# Altium integrated library NSC Switcher.IntLib: 2027 symbols (part 21 of 54)
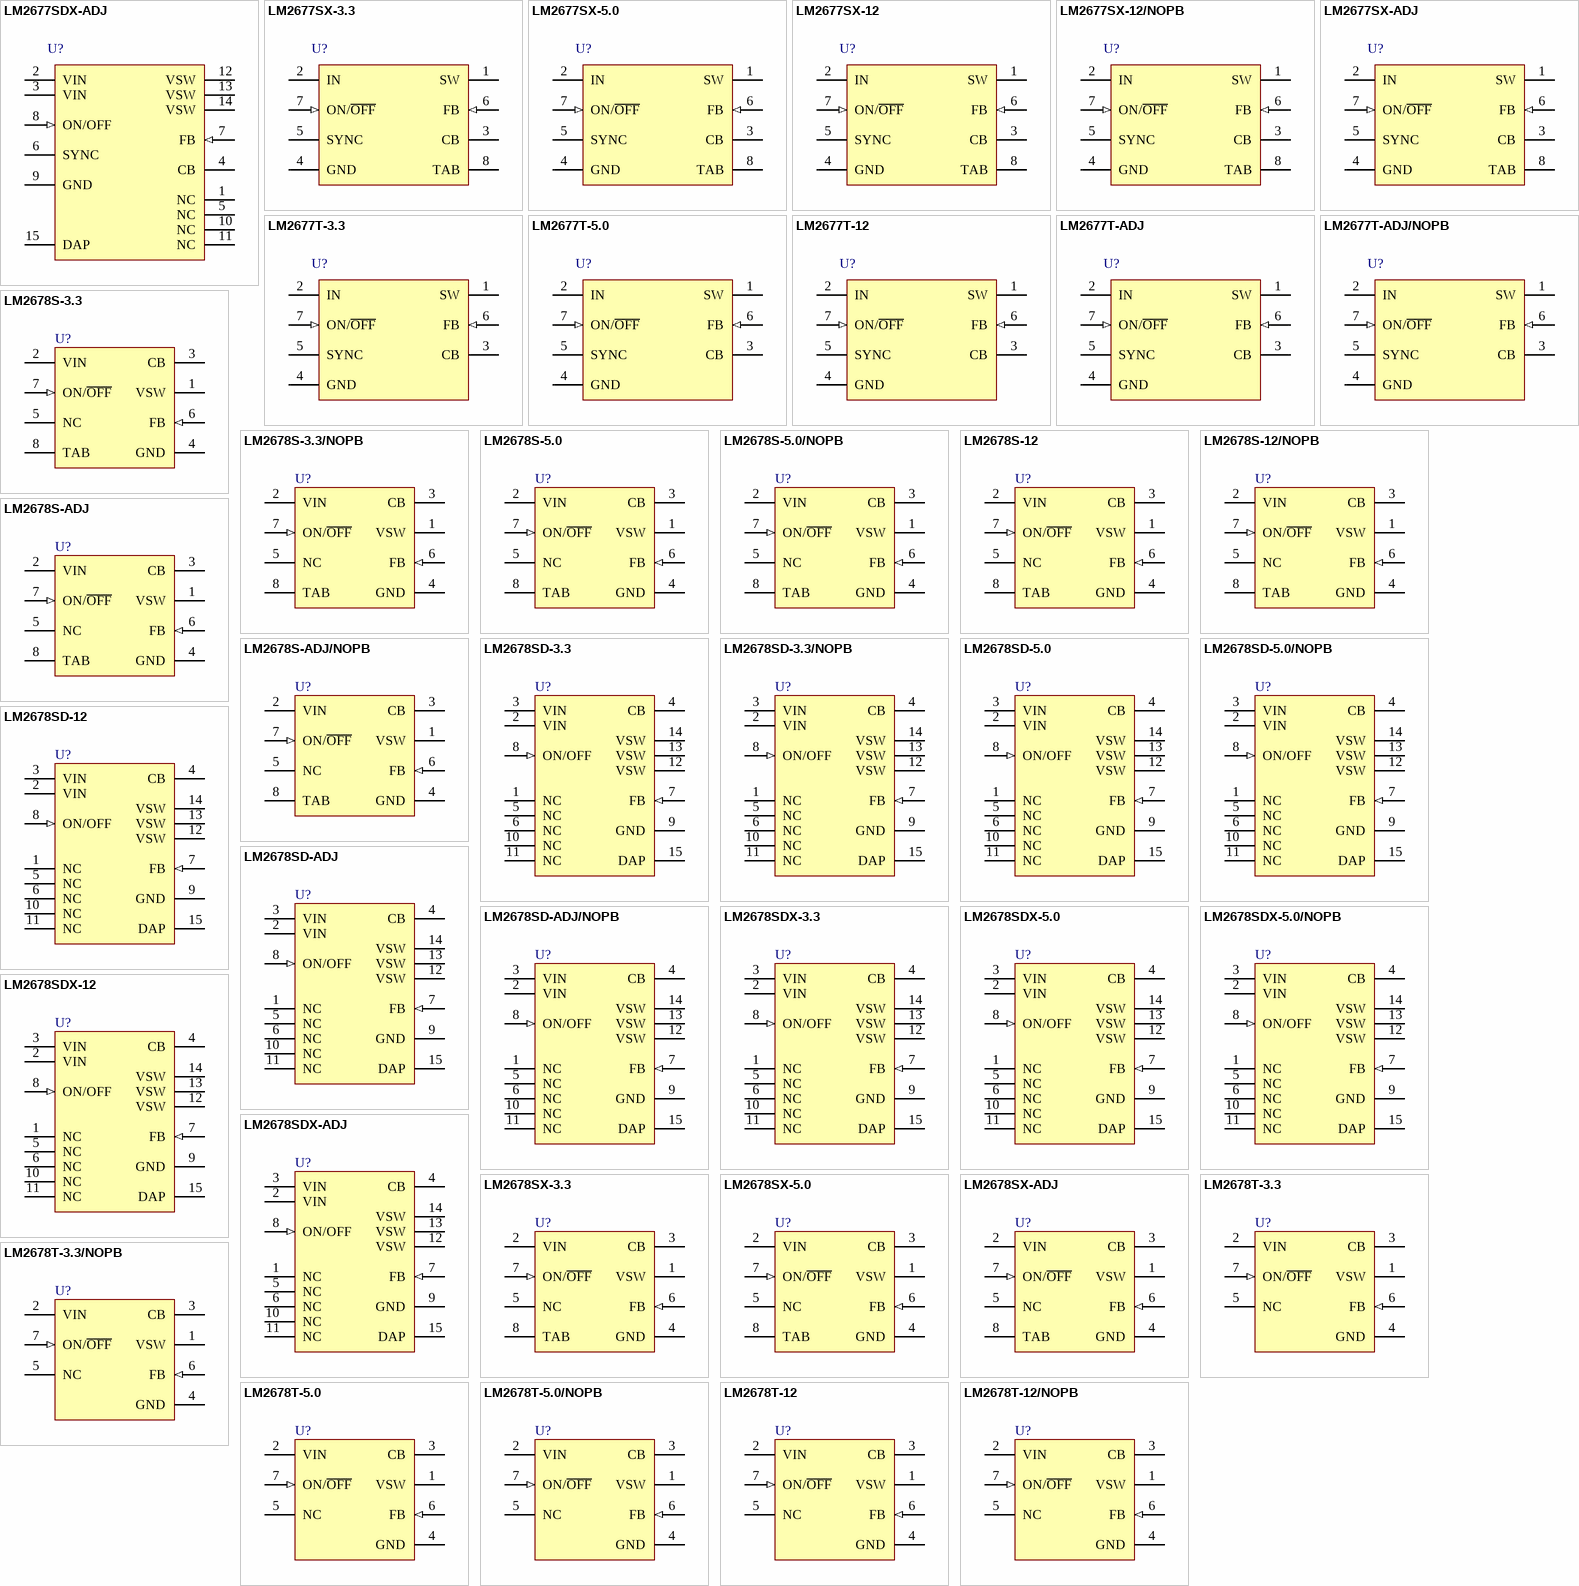
[diagram p83: symbols LM2677SDX-ADJ to LM2678T-12/NOPB]

## LM2678T-3.3/NOPB
designator U?
SIMPLE SWITCHER® High Efficiency 5A Step-Down Voltage Regulator, 7-pin TO-220, Pb-Free; PartNumber: LM2678T-3.3/NOPB; Manufacturer: National Semiconductor; PackageTopMarking: NSUZXYTTE#*LM2678*T-3.3; PowerWise: N; Published: 1-Mar-2010; DatasheetVersion: May-2008; PackageVersion: revC, Apr-1999; PackageReference: TA07B; Publisher: Altium Limited; PackageDescription: TO-220, Molded, .400 x .590 x .180in Body, 7 Lead, .050in Pitch, Staggered; Supplier 1: Digi-Key; Supplier Part Number 1: LM2678T-3.3-ND; RoHS: Y; PinCount: 7; CompType: Switcher; Code_JEDEC: TO-220-AB; ComponentLink1Description: LM2678 Datasheet; ComponentLink1URL: http://www.national.com/ds/LM/LM2678.pdf; ComponentLink2Description: LM2678 Web Page; ComponentLink2URL: http://www.national.com/pf/LM/LM2678.html; ComponentLink3Description: TA07B Package Page; ComponentLink3URL: http://www.national.com/packaging/folders/ta07b.html
footprint TA07B (TO, Thru-Hole, Vertical, Heatsink Mounted; 7 Bent Staggered Leads; Body 10.2x8.7x4.6mm, Pitch 1.27 mm)
pins: 1 VSW (power), 2 VIN (power), 3 CB, 4 GND (power), 5 NC, 6 FB (in), 7 ON/~{OFF} (in)

## LM2678T-5.0
designator U?
SIMPLE SWITCHER® High Efficiency 5A Step-Down Voltage Regulator, 7-pin TO-220; PartNumber: LM2678T-5.0; Manufacturer: National Semiconductor; PackageTopMarking: NSUZXYTTE#*LM2678*T-5.0; PowerWise: N; Published: 4-Dec-2008; DatasheetVersion: May-2008; PackageVersion: revC, Apr-1999; PackageReference: TA07B; Publisher: Altium Limited; PackageDescription: TO-220, Molded, .400 x .590 x .180in Body, 7 Lead, .050in Pitch, Staggered; Supplier 1: Farnell; Supplier Part Number 1: 9778365; RoHS: N; PinCount: 7; CompType: Switcher; Code_JEDEC: TO-220-AB; ComponentLink1Description: LM2678 Datasheet; ComponentLink1URL: http://www.national.com/ds/LM/LM2678.pdf; ComponentLink2Description: LM2678 Web Page; ComponentLink2URL: http://www.national.com/pf/LM/LM2678.html; ComponentLink3Description: TA07B Package Page; ComponentLink3URL: http://www.national.com/packaging/folders/ta07b.html
footprint TA07B (TO, Thru-Hole, Vertical, Heatsink Mounted; 7 Bent Staggered Leads; Body 10.2x8.7x4.6mm, Pitch 1.27 mm)
pins: 1 VSW (power), 2 VIN (power), 3 CB, 4 GND (power), 5 NC, 6 FB (in), 7 ON/~{OFF} (in)

## LM2678T-5.0/NOPB
designator U?
SIMPLE SWITCHER® High Efficiency 5A Step-Down Voltage Regulator, 7-pin TO-220, Pb-Free; PartNumber: LM2678T-5.0/NOPB; Manufacturer: National Semiconductor; PackageTopMarking: NSUZXYTTE#*LM2678*T-5.0; PowerWise: N; Published: 1-Mar-2010; DatasheetVersion: May-2008; PackageVersion: revC, Apr-1999; PackageReference: TA07B; Publisher: Altium Limited; PackageDescription: TO-220, Molded, .400 x .590 x .180in Body, 7 Lead, .050in Pitch, Staggered; Supplier 1: Digi-Key; Supplier Part Number 1: LM2678T-5.0-ND; Supplier 2: Farnell; Supplier Part Number 2: 1258326; RoHS: Y; PinCount: 7; CompType: Switcher; Code_JEDEC: TO-220-AB; ComponentLink1Description: LM2678 Datasheet; ComponentLink1URL: http://www.national.com/ds/LM/LM2678.pdf; ComponentLink2Description: LM2678 Web Page; ComponentLink2URL: http://www.national.com/pf/LM/LM2678.html; ComponentLink3Description: TA07B Package Page; ComponentLink3URL: http://www.national.com/packaging/folders/ta07b.html
footprint TA07B (TO, Thru-Hole, Vertical, Heatsink Mounted; 7 Bent Staggered Leads; Body 10.2x8.7x4.6mm, Pitch 1.27 mm)
pins: 1 VSW (power), 2 VIN (power), 3 CB, 4 GND (power), 5 NC, 6 FB (in), 7 ON/~{OFF} (in)

## LM2678T-12
designator U?
SIMPLE SWITCHER® High Efficiency 5A Step-Down Voltage Regulator, 7-pin TO-220; PartNumber: LM2678T-12; Manufacturer: National Semiconductor; PackageTopMarking: NSUZXYTTE#*LM2678*T-12; PowerWise: N; Published: 4-Dec-2008; DatasheetVersion: May-2008; PackageVersion: revC, Apr-1999; PackageReference: TA07B; Publisher: Altium Limited; PackageDescription: TO-220, Molded, .400 x .590 x .180in Body, 7 Lead, .050in Pitch, Staggered; Supplier 1: Farnell; Supplier Part Number 1: 9778357; RoHS: N; PinCount: 7; CompType: Switcher; Code_JEDEC: TO-220-AB; ComponentLink1Description: LM2678 Datasheet; ComponentLink1URL: http://www.national.com/ds/LM/LM2678.pdf; ComponentLink2Description: LM2678 Web Page; ComponentLink2URL: http://www.national.com/pf/LM/LM2678.html; ComponentLink3Description: TA07B Package Page; ComponentLink3URL: http://www.national.com/packaging/folders/ta07b.html
footprint TA07B (TO, Thru-Hole, Vertical, Heatsink Mounted; 7 Bent Staggered Leads; Body 10.2x8.7x4.6mm, Pitch 1.27 mm)
pins: 1 VSW (power), 2 VIN (power), 3 CB, 4 GND (power), 5 NC, 6 FB (in), 7 ON/~{OFF} (in)

## LM2678T-12/NOPB
designator U?
SIMPLE SWITCHER® High Efficiency 5A Step-Down Voltage Regulator, 7-pin TO-220, Pb-Free; PartNumber: LM2678T-12/NOPB; Manufacturer: National Semiconductor; PackageTopMarking: NSUZXYTTE#*LM2678*T-12; PowerWise: N; Published: 1-Mar-2010; DatasheetVersion: May-2008; PackageVersion: revC, Apr-1999; PackageReference: TA07B; Publisher: Altium Limited; PackageDescription: TO-220, Molded, .400 x .590 x .180in Body, 7 Lead, .050in Pitch, Staggered; Supplier 1: Digi-Key; Supplier Part Number 1: LM2678T-12-ND; Supplier 2: Farnell; Supplier Part Number 2: 1367578; RoHS: Y; PinCount: 7; CompType: Switcher; Code_JEDEC: TO-220-AB; ComponentLink1Description: LM2678 Datasheet; ComponentLink1URL: http://www.national.com/ds/LM/LM2678.pdf; ComponentLink2Description: LM2678 Web Page; ComponentLink2URL: http://www.national.com/pf/LM/LM2678.html; ComponentLink3Description: TA07B Package Page; ComponentLink3URL: http://www.national.com/packaging/folders/ta07b.html
footprint TA07B (TO, Thru-Hole, Vertical, Heatsink Mounted; 7 Bent Staggered Leads; Body 10.2x8.7x4.6mm, Pitch 1.27 mm)
pins: 1 VSW (power), 2 VIN (power), 3 CB, 4 GND (power), 5 NC, 6 FB (in), 7 ON/~{OFF} (in)

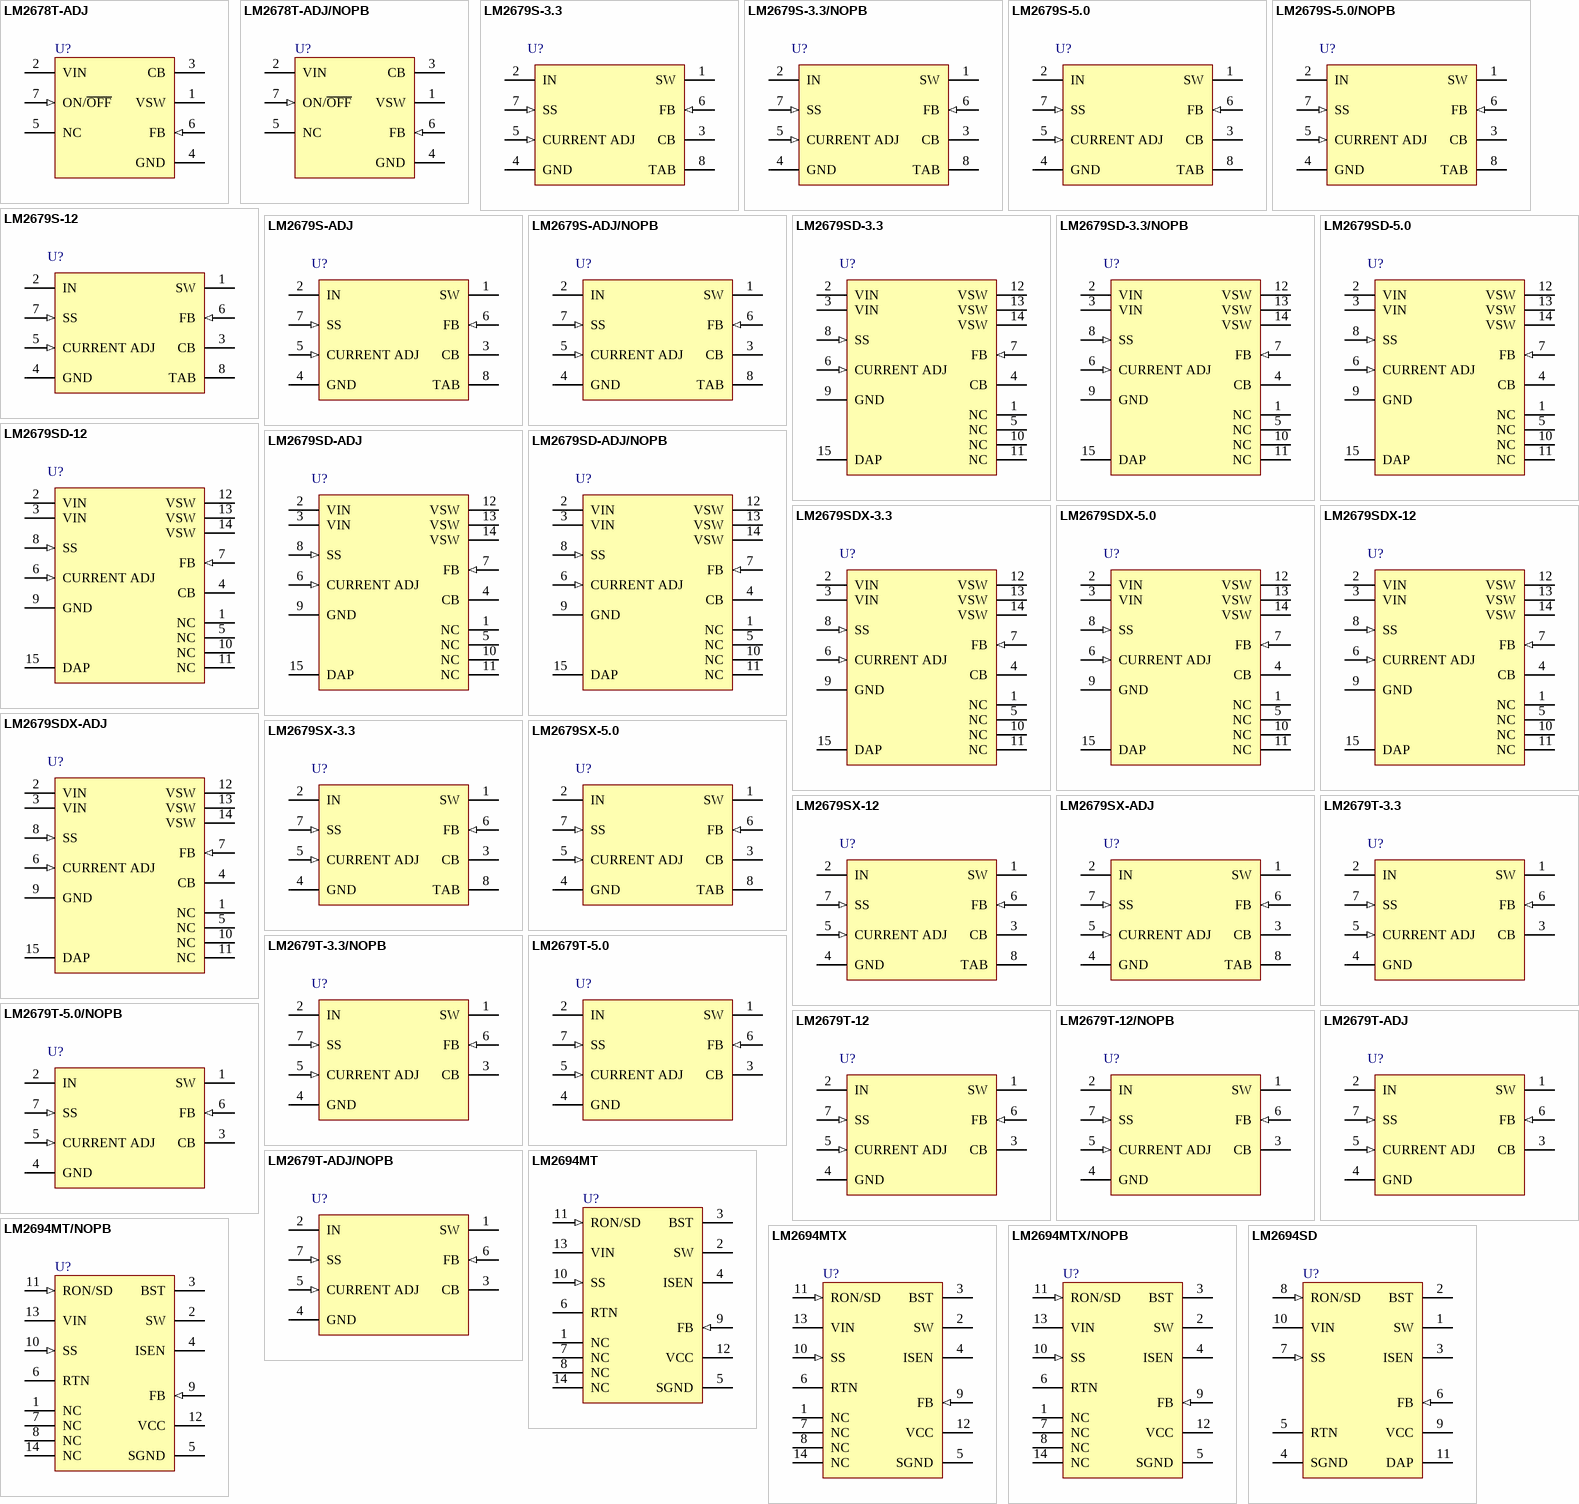
[diagram p22: symbols LM2678T-ADJ to LM2694SD]

## LM2678T-ADJ
designator U?
SIMPLE SWITCHER® High Efficiency 5A Step-Down Voltage Regulator, 7-pin TO-220; PartNumber: LM2678T-ADJ; Manufacturer: National Semiconductor; PackageTopMarking: NSUZXYTTE#*LM2678*T-ADJ; PowerWise: N; Published: 4-Dec-2008; DatasheetVersion: May-2008; PackageVersion: revC, Apr-1999; PackageReference: TA07B; Publisher: Altium Limited; PackageDescription: TO-220, Molded, .400 x .590 x .180in Body, 7 Lead, .050in Pitch, Staggered; Supplier 1: Farnell; Supplier Part Number 1: 1523827; Supplier 2: Farnell; Supplier Part Number 2: 9486186; RoHS: N; PinCount: 7; CompType: Switcher; Code_JEDEC: TO-220-AB; ComponentLink1Description: LM2678 Datasheet; ComponentLink1URL: http://www.national.com/ds/LM/LM2678.pdf; ComponentLink2Description: LM2678 Web Page; ComponentLink2URL: http://www.national.com/pf/LM/LM2678.html; ComponentLink3Description: TA07B Package Page; ComponentLink3URL: http://www.national.com/packaging/folders/ta07b.html
footprint TA07B (TO, Thru-Hole, Vertical, Heatsink Mounted; 7 Bent Staggered Leads; Body 10.2x8.7x4.6mm, Pitch 1.27 mm)
pins: 1 VSW (power), 2 VIN (power), 3 CB, 4 GND (power), 5 NC, 6 FB (in), 7 ON/~{OFF} (in)

## LM2678T-ADJ/NOPB
designator U?
SIMPLE SWITCHER® High Efficiency 5A Step-Down Voltage Regulator, 7-pin TO-220, Pb-Free; PartNumber: LM2678T-ADJ/NOPB; Manufacturer: National Semiconductor; PackageTopMarking: NSUZXYTTE#*LM2678*T-ADJ; PowerWise: N; Published: 1-Mar-2010; DatasheetVersion: May-2008; PackageVersion: revC, Apr-1999; PackageReference: TA07B; Publisher: Altium Limited; PackageDescription: TO-220, Molded, .400 x .590 x .180in Body, 7 Lead, .050in Pitch, Staggered; Supplier 1: Digi-Key; Supplier Part Number 1: LM2678T-ADJ-ND; Supplier 2: Farnell; Supplier Part Number 2: 1213594; RoHS: Y; PinCount: 7; CompType: Switcher; Code_JEDEC: TO-220-AB; ComponentLink1Description: LM2678 Datasheet; ComponentLink1URL: http://www.national.com/ds/LM/LM2678.pdf; ComponentLink2Description: LM2678 Web Page; ComponentLink2URL: http://www.national.com/pf/LM/LM2678.html; ComponentLink3Description: TA07B Package Page; ComponentLink3URL: http://www.national.com/packaging/folders/ta07b.html
footprint TA07B (TO, Thru-Hole, Vertical, Heatsink Mounted; 7 Bent Staggered Leads; Body 10.2x8.7x4.6mm, Pitch 1.27 mm)
pins: 1 VSW (power), 2 VIN (power), 3 CB, 4 GND (power), 5 NC, 6 FB (in), 7 ON/~{OFF} (in)

## LM2679S-3.3
designator U?
SIMPLE SWITCHER® 5A Step-Down Voltage Regulator with Adjustable Current Limit, 7-pin TO-263; PartNumber: LM2679S-3.3; Manufacturer: National Semiconductor; PackageTopMarking: NSUZXYTTE#*LM2679*S-3.3; PowerWise: N; Published: 4-Dec-2008; DatasheetVersion: Feb-2008; PackageVersion: revE, Jul-2003; PackageReference: TS7B; Publisher: Altium Limited; PackageDescription: TO-263, Molded, .400 x .390 x .180in Body, 7 Lead, .050in Pitch, Surface Mount; RoHS: N; PinCount: 7; CompType: Switcher; Code_JEDEC: MO-169-AC; ComponentLink1Description: LM2679 Datasheet; ComponentLink1URL: http://www.national.com/ds/LM/LM2679.pdf; ComponentLink2Description: LM2679 Web Page; ComponentLink2URL: http://www.national.com/pf/LM/LM2679.html; ComponentLink3Description: TS7B Package Page; ComponentLink3URL: http://www.national.com/packaging/folders/ts7b.html
footprint TS7B_N (D2-PAK, 8-Leads, Body 8.6x10.2mm, Pitch 1.27mm, Lead Span 14.1mm, IPC Medium Density)
footprint TS7B_L (D2-PAK, 8-Leads, Body 8.6x10.2mm, Pitch 1.27mm, Lead Span 14.1mm, IPC High Density)
footprint TS7B_M (D2-PAK, 8-Leads, Body 8.6x10.2mm, Pitch 1.27mm, Lead Span 14.1mm, IPC Low Density)
pins: 1 SW (power), 2 IN (power), 3 CB, 4 GND (power), 5 CURRENT ADJ (in), 6 FB (in), 7 SS (in), 8 TAB (power)

## LM2679S-3.3/NOPB
designator U?
SIMPLE SWITCHER® 5A Step-Down Voltage Regulator with Adjustable Current Limit, 7-pin TO-263, Pb-Free; PartNumber: LM2679S-3.3/NOPB; Manufacturer: National Semiconductor; PackageTopMarking: NSUZXYTTE#*LM2679*S-3.3; PowerWise: N; Published: 1-Mar-2010; DatasheetVersion: Feb-2008; PackageVersion: revE, Jul-2003; PackageReference: TS7B; Publisher: Altium Limited; PackageDescription: TO-263, Molded, .400 x .390 x .180in Body, 7 Lead, .050in Pitch, Surface Mount; Supplier 1: Digi-Key; Supplier Part Number 1: LM2679S-3.3-ND; RoHS: Y; PinCount: 7; CompType: Switcher; Code_JEDEC: MO-169-AC; ComponentLink1Description: LM2679 Datasheet; ComponentLink1URL: http://www.national.com/ds/LM/LM2679.pdf; ComponentLink2Description: LM2679 Web Page; ComponentLink2URL: http://www.national.com/pf/LM/LM2679.html; ComponentLink3Description: TS7B Package Page; ComponentLink3URL: http://www.national.com/packaging/folders/ts7b.html
footprint TS7B_N (D2-PAK, 8-Leads, Body 8.6x10.2mm, Pitch 1.27mm, Lead Span 14.1mm, IPC Medium Density)
footprint TS7B_L (D2-PAK, 8-Leads, Body 8.6x10.2mm, Pitch 1.27mm, Lead Span 14.1mm, IPC High Density)
footprint TS7B_M (D2-PAK, 8-Leads, Body 8.6x10.2mm, Pitch 1.27mm, Lead Span 14.1mm, IPC Low Density)
pins: 1 SW (power), 2 IN (power), 3 CB, 4 GND (power), 5 CURRENT ADJ (in), 6 FB (in), 7 SS (in), 8 TAB (power)

## LM2679S-5.0
designator U?
SIMPLE SWITCHER® 5A Step-Down Voltage Regulator with Adjustable Current Limit, 7-pin TO-263; PartNumber: LM2679S-5.0; Manufacturer: National Semiconductor; PackageTopMarking: NSUZXYTTE#*LM2679*S-5.0; PowerWise: N; Published: 4-Dec-2008; DatasheetVersion: Feb-2008; PackageVersion: revE, Jul-2003; PackageReference: TS7B; Publisher: Altium Limited; PackageDescription: TO-263, Molded, .400 x .390 x .180in Body, 7 Lead, .050in Pitch, Surface Mount; Supplier 1: Farnell; Supplier Part Number 1: 9486208; RoHS: N; PinCount: 7; CompType: Switcher; Code_JEDEC: MO-169-AC; ComponentLink1Description: LM2679 Datasheet; ComponentLink1URL: http://www.national.com/ds/LM/LM2679.pdf; ComponentLink2Description: LM2679 Web Page; ComponentLink2URL: http://www.national.com/pf/LM/LM2679.html; ComponentLink3Description: TS7B Package Page; ComponentLink3URL: http://www.national.com/packaging/folders/ts7b.html
footprint TS7B_N (D2-PAK, 8-Leads, Body 8.6x10.2mm, Pitch 1.27mm, Lead Span 14.1mm, IPC Medium Density)
footprint TS7B_L (D2-PAK, 8-Leads, Body 8.6x10.2mm, Pitch 1.27mm, Lead Span 14.1mm, IPC High Density)
footprint TS7B_M (D2-PAK, 8-Leads, Body 8.6x10.2mm, Pitch 1.27mm, Lead Span 14.1mm, IPC Low Density)
pins: 1 SW (power), 2 IN (power), 3 CB, 4 GND (power), 5 CURRENT ADJ (in), 6 FB (in), 7 SS (in), 8 TAB (power)

## LM2679S-5.0/NOPB
designator U?
SIMPLE SWITCHER® 5A Step-Down Voltage Regulator with Adjustable Current Limit, 7-pin TO-263, Pb-Free; PartNumber: LM2679S-5.0/NOPB; Manufacturer: National Semiconductor; PackageTopMarking: NSUZXYTTE#*LM2679*S-5.0; PowerWise: N; Published: 1-Mar-2010; DatasheetVersion: Feb-2008; PackageVersion: revE, Jul-2003; PackageReference: TS7B; Publisher: Altium Limited; PackageDescription: TO-263, Molded, .400 x .390 x .180in Body, 7 Lead, .050in Pitch, Surface Mount; Supplier 1: Digi-Key; Supplier Part Number 1: LM2679S-5.0-ND; RoHS: Y; PinCount: 7; CompType: Switcher; Code_JEDEC: MO-169-AC; ComponentLink1Description: LM2679 Datasheet; ComponentLink1URL: http://www.national.com/ds/LM/LM2679.pdf; ComponentLink2Description: LM2679 Web Page; ComponentLink2URL: http://www.national.com/pf/LM/LM2679.html; ComponentLink3Description: TS7B Package Page; ComponentLink3URL: http://www.national.com/packaging/folders/ts7b.html
footprint TS7B_N (D2-PAK, 8-Leads, Body 8.6x10.2mm, Pitch 1.27mm, Lead Span 14.1mm, IPC Medium Density)
footprint TS7B_L (D2-PAK, 8-Leads, Body 8.6x10.2mm, Pitch 1.27mm, Lead Span 14.1mm, IPC High Density)
footprint TS7B_M (D2-PAK, 8-Leads, Body 8.6x10.2mm, Pitch 1.27mm, Lead Span 14.1mm, IPC Low Density)
pins: 1 SW (power), 2 IN (power), 3 CB, 4 GND (power), 5 CURRENT ADJ (in), 6 FB (in), 7 SS (in), 8 TAB (power)

## LM2679S-12
designator U?
SIMPLE SWITCHER® 5A Step-Down Voltage Regulator with Adjustable Current Limit, 7-pin TO-263; PartNumber: LM2679S-12; Manufacturer: National Semiconductor; PackageTopMarking: NSUZXYTTE#*LM2679*S-12; PowerWise: N; Published: 4-Dec-2008; DatasheetVersion: Feb-2008; PackageVersion: revE, Jul-2003; PackageReference: TS7B; Publisher: Altium Limited; PackageDescription: TO-263, Molded, .400 x .390 x .180in Body, 7 Lead, .050in Pitch, Surface Mount; RoHS: N; PinCount: 7; CompType: Switcher; Code_JEDEC: MO-169-AC; ComponentLink1Description: LM2679 Datasheet; ComponentLink1URL: http://www.national.com/ds/LM/LM2679.pdf; ComponentLink2Description: LM2679 Web Page; ComponentLink2URL: http://www.national.com/pf/LM/LM2679.html; ComponentLink3Description: TS7B Package Page; ComponentLink3URL: http://www.national.com/packaging/folders/ts7b.html
footprint TS7B_N (D2-PAK, 8-Leads, Body 8.6x10.2mm, Pitch 1.27mm, Lead Span 14.1mm, IPC Medium Density)
footprint TS7B_L (D2-PAK, 8-Leads, Body 8.6x10.2mm, Pitch 1.27mm, Lead Span 14.1mm, IPC High Density)
footprint TS7B_M (D2-PAK, 8-Leads, Body 8.6x10.2mm, Pitch 1.27mm, Lead Span 14.1mm, IPC Low Density)
pins: 1 SW (power), 2 IN (power), 3 CB, 4 GND (power), 5 CURRENT ADJ (in), 6 FB (in), 7 SS (in), 8 TAB (power)

## LM2679S-ADJ
designator U?
SIMPLE SWITCHER® 5A Step-Down Voltage Regulator with Adjustable Current Limit, 7-pin TO-263; PartNumber: LM2679S-ADJ; Manufacturer: National Semiconductor; PackageTopMarking: NSUZXYTTE#*LM2679*S-ADJ; PowerWise: N; Published: 4-Dec-2008; DatasheetVersion: Feb-2008; PackageVersion: revE, Jul-2003; PackageReference: TS7B; Publisher: Altium Limited; PackageDescription: TO-263, Molded, .400 x .390 x .180in Body, 7 Lead, .050in Pitch, Surface Mount; Supplier 1: Farnell; Supplier Part Number 1: 9486194; Supplier 2: Farnell; Supplier Part Number 2: 1523828; RoHS: N; PinCount: 7; CompType: Switcher; Code_JEDEC: MO-169-AC; ComponentLink1Description: LM2679 Datasheet; ComponentLink1URL: http://www.national.com/ds/LM/LM2679.pdf; ComponentLink2Description: LM2679 Web Page; ComponentLink2URL: http://www.national.com/pf/LM/LM2679.html; ComponentLink3Description: TS7B Package Page; ComponentLink3URL: http://www.national.com/packaging/folders/ts7b.html
footprint TS7B_N (D2-PAK, 8-Leads, Body 8.6x10.2mm, Pitch 1.27mm, Lead Span 14.1mm, IPC Medium Density)
footprint TS7B_L (D2-PAK, 8-Leads, Body 8.6x10.2mm, Pitch 1.27mm, Lead Span 14.1mm, IPC High Density)
footprint TS7B_M (D2-PAK, 8-Leads, Body 8.6x10.2mm, Pitch 1.27mm, Lead Span 14.1mm, IPC Low Density)
pins: 1 SW (power), 2 IN (power), 3 CB, 4 GND (power), 5 CURRENT ADJ (in), 6 FB (in), 7 SS (in), 8 TAB (power)

## LM2679S-ADJ/NOPB
designator U?
SIMPLE SWITCHER® 5A Step-Down Voltage Regulator with Adjustable Current Limit, 7-pin TO-263, Pb-Free; PartNumber: LM2679S-ADJ/NOPB; Manufacturer: National Semiconductor; PackageTopMarking: NSUZXYTTE#*LM2679*S-ADJ; PowerWise: N; Published: 1-Mar-2010; DatasheetVersion: Feb-2008; PackageVersion: revE, Jul-2003; PackageReference: TS7B; Publisher: Altium Limited; PackageDescription: TO-263, Molded, .400 x .390 x .180in Body, 7 Lead, .050in Pitch, Surface Mount; Supplier 1: Digi-Key; Supplier Part Number 1: LM2679S-ADJ-ND; Supplier 2: Farnell; Supplier Part Number 2: 1469217; RoHS: Y; PinCount: 7; CompType: Switcher; Code_JEDEC: MO-169-AC; ComponentLink1Description: LM2679 Datasheet; ComponentLink1URL: http://www.national.com/ds/LM/LM2679.pdf; ComponentLink2Description: LM2679 Web Page; ComponentLink2URL: http://www.national.com/pf/LM/LM2679.html; ComponentLink3Description: TS7B Package Page; ComponentLink3URL: http://www.national.com/packaging/folders/ts7b.html
footprint TS7B_N (D2-PAK, 8-Leads, Body 8.6x10.2mm, Pitch 1.27mm, Lead Span 14.1mm, IPC Medium Density)
footprint TS7B_L (D2-PAK, 8-Leads, Body 8.6x10.2mm, Pitch 1.27mm, Lead Span 14.1mm, IPC High Density)
footprint TS7B_M (D2-PAK, 8-Leads, Body 8.6x10.2mm, Pitch 1.27mm, Lead Span 14.1mm, IPC Low Density)
pins: 1 SW (power), 2 IN (power), 3 CB, 4 GND (power), 5 CURRENT ADJ (in), 6 FB (in), 7 SS (in), 8 TAB (power)

## LM2679SD-3.3
designator U?
SIMPLE SWITCHER® 5A Step-Down Voltage Regulator with Adjustable Current Limit, 14-pin LLP; PartNumber: LM2679SD-3.3; Manufacturer: National Semiconductor; PackageTopMarking: NS*UZXYTT*S0003HB; PowerWise: N; Published: 4-Dec-2008; DatasheetVersion: Feb-2008; PackageVersion: revA, Jul-2003; PackageReference: SRC14A; Publisher: Altium Limited; PackageDescription: LLP, Plastic, Dual, 6 x 5 x 1mm Body, 14 Lead, 0.8mm Pitch, No Pullback; RoHS: N; PinCount: 14; CompType: Switcher; ComponentLink1Description: LM2679 Datasheet; ComponentLink1URL: http://www.national.com/ds/LM/LM2679.pdf; ComponentLink2Description: LM2679 Web Page; ComponentLink2URL: http://www.national.com/pf/LM/LM2679.html; ComponentLink3Description: SRC14A Package Page; ComponentLink3URL: http://www.national.com/packaging/folders/src14a.html
footprint SRC14A (SON, 14-Leads, Body 6x5 mm, Pitch 0.8mm, NSC Recommended)
pins: 1 NC, 2 VIN (power), 3 VIN (power), 4 CB, 5 NC, 6 CURRENT ADJ (in), 7 FB (in), 8 SS (in), 9 GND (power), 10 NC, 11 NC, 12 VSW (power), 13 VSW (power), 14 VSW (power), 15 DAP

## LM2679SD-3.3/NOPB
designator U?
SIMPLE SWITCHER® 5A Step-Down Voltage Regulator with Adjustable Current Limit, 14-pin LLP, Pb-Free; PartNumber: LM2679SD-3.3/NOPB; Manufacturer: National Semiconductor; PackageTopMarking: NS*UZXYTT*S0003HB; PowerWise: N; Published: 1-Mar-2010; DatasheetVersion: Feb-2008; PackageVersion: revA, Jul-2003; PackageReference: SRC14A; Publisher: Altium Limited; PackageDescription: LLP, Plastic, Dual, 6 x 5 x 1mm Body, 14 Lead, 0.8mm Pitch, No Pullback; Supplier 1: Digi-Key; Supplier Part Number 1: LM2679SD-3.3TR-ND; Supplier 2: Digi-Key; Supplier Part Number 2: LM2679SD-3.3CT-ND; Supplier 3: Digi-Key; Supplier Part Number 3: LM2679SD-3.3DKR-ND; RoHS: Y; PinCount: 14; CompType: Switcher; ComponentLink1Description: LM2679 Datasheet; ComponentLink1URL: http://www.national.com/ds/LM/LM2679.pdf; ComponentLink2Description: LM2679 Web Page; ComponentLink2URL: http://www.national.com/pf/LM/LM2679.html; ComponentLink3Description: SRC14A Package Page; ComponentLink3URL: http://www.national.com/packaging/folders/src14a.html
footprint SRC14A (SON, 14-Leads, Body 6x5 mm, Pitch 0.8mm, NSC Recommended)
pins: 1 NC, 2 VIN (power), 3 VIN (power), 4 CB, 5 NC, 6 CURRENT ADJ (in), 7 FB (in), 8 SS (in), 9 GND (power), 10 NC, 11 NC, 12 VSW (power), 13 VSW (power), 14 VSW (power), 15 DAP

## LM2679SD-5.0
designator U?
SIMPLE SWITCHER® 5A Step-Down Voltage Regulator with Adjustable Current Limit, 14-pin LLP; PartNumber: LM2679SD-5.0; Manufacturer: National Semiconductor; PackageTopMarking: NS*UZXYTT*S0003JB; PowerWise: N; Published: 4-Dec-2008; DatasheetVersion: Feb-2008; PackageVersion: revA, Jul-2003; PackageReference: SRC14A; Publisher: Altium Limited; PackageDescription: LLP, Plastic, Dual, 6 x 5 x 1mm Body, 14 Lead, 0.8mm Pitch, No Pullback; Supplier 1: Digi-Key; Supplier Part Number 1: LM2679SD-5.0TR-ND; Supplier 2: Digi-Key; Supplier Part Number 2: LM2679SD-5.0CT-ND; Supplier 3: Digi-Key; Supplier Part Number 3: LM2679SD-5.0DKR-ND; RoHS: N; PinCount: 14; CompType: Switcher; ComponentLink1Description: LM2679 Datasheet; ComponentLink1URL: http://www.national.com/ds/LM/LM2679.pdf; ComponentLink2Description: LM2679 Web Page; ComponentLink2URL: http://www.national.com/pf/LM/LM2679.html; ComponentLink3Description: SRC14A Package Page; ComponentLink3URL: http://www.national.com/packaging/folders/src14a.html
footprint SRC14A (SON, 14-Leads, Body 6x5 mm, Pitch 0.8mm, NSC Recommended)
pins: 1 NC, 2 VIN (power), 3 VIN (power), 4 CB, 5 NC, 6 CURRENT ADJ (in), 7 FB (in), 8 SS (in), 9 GND (power), 10 NC, 11 NC, 12 VSW (power), 13 VSW (power), 14 VSW (power), 15 DAP

## LM2679SD-12
designator U?
SIMPLE SWITCHER® 5A Step-Down Voltage Regulator with Adjustable Current Limit, 14-pin LLP; PartNumber: LM2679SD-12; Manufacturer: National Semiconductor; PackageTopMarking: NS*UZXYTT*S0003FB; PowerWise: N; Published: 4-Dec-2008; DatasheetVersion: Feb-2008; PackageVersion: revA, Jul-2003; PackageReference: SRC14A; Publisher: Altium Limited; PackageDescription: LLP, Plastic, Dual, 6 x 5 x 1mm Body, 14 Lead, 0.8mm Pitch, No Pullback; RoHS: N; PinCount: 14; CompType: Switcher; ComponentLink1Description: LM2679 Datasheet; ComponentLink1URL: http://www.national.com/ds/LM/LM2679.pdf; ComponentLink2Description: LM2679 Web Page; ComponentLink2URL: http://www.national.com/pf/LM/LM2679.html; ComponentLink3Description: SRC14A Package Page; ComponentLink3URL: http://www.national.com/packaging/folders/src14a.html
footprint SRC14A (SON, 14-Leads, Body 6x5 mm, Pitch 0.8mm, NSC Recommended)
pins: 1 NC, 2 VIN (power), 3 VIN (power), 4 CB, 5 NC, 6 CURRENT ADJ (in), 7 FB (in), 8 SS (in), 9 GND (power), 10 NC, 11 NC, 12 VSW (power), 13 VSW (power), 14 VSW (power), 15 DAP

## LM2679SD-ADJ
designator U?
SIMPLE SWITCHER® 5A Step-Down Voltage Regulator with Adjustable Current Limit, 14-pin LLP; PartNumber: LM2679SD-ADJ; Manufacturer: National Semiconductor; PackageTopMarking: NS*UZXYTT*S0003KB; PowerWise: N; Published: 4-Dec-2008; DatasheetVersion: Feb-2008; PackageVersion: revA, Jul-2003; PackageReference: SRC14A; Publisher: Altium Limited; PackageDescription: LLP, Plastic, Dual, 6 x 5 x 1mm Body, 14 Lead, 0.8mm Pitch, No Pullback; RoHS: N; PinCount: 14; CompType: Switcher; ComponentLink1Description: LM2679 Datasheet; ComponentLink1URL: http://www.national.com/ds/LM/LM2679.pdf; ComponentLink2Description: LM2679 Web Page; ComponentLink2URL: http://www.national.com/pf/LM/LM2679.html; ComponentLink3Description: SRC14A Package Page; ComponentLink3URL: http://www.national.com/packaging/folders/src14a.html
footprint SRC14A (SON, 14-Leads, Body 6x5 mm, Pitch 0.8mm, NSC Recommended)
pins: 1 NC, 2 VIN (power), 3 VIN (power), 4 CB, 5 NC, 6 CURRENT ADJ (in), 7 FB (in), 8 SS (in), 9 GND (power), 10 NC, 11 NC, 12 VSW (power), 13 VSW (power), 14 VSW (power), 15 DAP

## LM2679SD-ADJ/NOPB
designator U?
SIMPLE SWITCHER® 5A Step-Down Voltage Regulator with Adjustable Current Limit, 14-pin LLP, Pb-Free; PartNumber: LM2679SD-ADJ/NOPB; Manufacturer: National Semiconductor; PackageTopMarking: NS*UZXYTT*S0003KB; PowerWise: N; Published: 1-Mar-2010; DatasheetVersion: Feb-2008; PackageVersion: revA, Jul-2003; PackageReference: SRC14A; Publisher: Altium Limited; PackageDescription: LLP, Plastic, Dual, 6 x 5 x 1mm Body, 14 Lead, 0.8mm Pitch, No Pullback; Supplier 1: Digi-Key; Supplier Part Number 1: LM2679SD-ADJTR-ND; Supplier 2: Digi-Key; Supplier Part Number 2: LM2679SD-ADJCT-ND; Supplier 3: Digi-Key; Supplier Part Number 3: LM2679SD-ADJDKR-ND; RoHS: Y; PinCount: 14; CompType: Switcher; ComponentLink1Description: LM2679 Datasheet; ComponentLink1URL: http://www.national.com/ds/LM/LM2679.pdf; ComponentLink2Description: LM2679 Web Page; ComponentLink2URL: http://www.national.com/pf/LM/LM2679.html; ComponentLink3Description: SRC14A Package Page; ComponentLink3URL: http://www.national.com/packaging/folders/src14a.html
footprint SRC14A (SON, 14-Leads, Body 6x5 mm, Pitch 0.8mm, NSC Recommended)
pins: 1 NC, 2 VIN (power), 3 VIN (power), 4 CB, 5 NC, 6 CURRENT ADJ (in), 7 FB (in), 8 SS (in), 9 GND (power), 10 NC, 11 NC, 12 VSW (power), 13 VSW (power), 14 VSW (power), 15 DAP

## LM2679SDX-3.3
designator U?
SIMPLE SWITCHER® 5A Step-Down Voltage Regulator with Adjustable Current Limit, 14-pin LLP; PartNumber: LM2679SDX-3.3; Manufacturer: National Semiconductor; PackageTopMarking: NS*UZXYTT*S0003HB; PowerWise: N; Published: 1-Mar-2010; DatasheetVersion: Feb-2008; PackageVersion: revA, Jul-2003; PackageReference: SRC14A; Publisher: Altium Limited; PackageDescription: LLP, Plastic, Dual, 6 x 5 x 1mm Body, 14 Lead, 0.8mm Pitch, No Pullback; RoHS: N; PinCount: 14; CompType: Switcher; ComponentLink1Description: LM2679 Datasheet; ComponentLink1URL: http://www.national.com/ds/LM/LM2679.pdf; ComponentLink2Description: LM2679 Web Page; ComponentLink2URL: http://www.national.com/pf/LM/LM2679.html; ComponentLink3Description: SRC14A Package Page; ComponentLink3URL: http://www.national.com/packaging/folders/src14a.html
footprint SRC14A (SON, 14-Leads, Body 6x5 mm, Pitch 0.8mm, NSC Recommended)
pins: 1 NC, 2 VIN (power), 3 VIN (power), 4 CB, 5 NC, 6 CURRENT ADJ (in), 7 FB (in), 8 SS (in), 9 GND (power), 10 NC, 11 NC, 12 VSW (power), 13 VSW (power), 14 VSW (power), 15 DAP

## LM2679SDX-5.0
designator U?
SIMPLE SWITCHER® 5A Step-Down Voltage Regulator with Adjustable Current Limit, 14-pin LLP; PartNumber: LM2679SDX-5.0; Manufacturer: National Semiconductor; PackageTopMarking: NS*UZXYTT*S0003JB; PowerWise: N; Published: 1-Mar-2010; DatasheetVersion: Feb-2008; PackageVersion: revA, Jul-2003; PackageReference: SRC14A; Publisher: Altium Limited; PackageDescription: LLP, Plastic, Dual, 6 x 5 x 1mm Body, 14 Lead, 0.8mm Pitch, No Pullback; RoHS: N; PinCount: 14; CompType: Switcher; ComponentLink1Description: LM2679 Datasheet; ComponentLink1URL: http://www.national.com/ds/LM/LM2679.pdf; ComponentLink2Description: LM2679 Web Page; ComponentLink2URL: http://www.national.com/pf/LM/LM2679.html; ComponentLink3Description: SRC14A Package Page; ComponentLink3URL: http://www.national.com/packaging/folders/src14a.html
footprint SRC14A (SON, 14-Leads, Body 6x5 mm, Pitch 0.8mm, NSC Recommended)
pins: 1 NC, 2 VIN (power), 3 VIN (power), 4 CB, 5 NC, 6 CURRENT ADJ (in), 7 FB (in), 8 SS (in), 9 GND (power), 10 NC, 11 NC, 12 VSW (power), 13 VSW (power), 14 VSW (power), 15 DAP

## LM2679SDX-12
designator U?
SIMPLE SWITCHER® 5A Step-Down Voltage Regulator with Adjustable Current Limit, 14-pin LLP; PartNumber: LM2679SDX-12; Manufacturer: National Semiconductor; PackageTopMarking: NS*UZXYTT*S0003FB; PowerWise: N; Published: 1-Mar-2010; DatasheetVersion: Feb-2008; PackageVersion: revA, Jul-2003; PackageReference: SRC14A; Publisher: Altium Limited; PackageDescription: LLP, Plastic, Dual, 6 x 5 x 1mm Body, 14 Lead, 0.8mm Pitch, No Pullback; RoHS: N; PinCount: 14; CompType: Switcher; ComponentLink1Description: LM2679 Datasheet; ComponentLink1URL: http://www.national.com/ds/LM/LM2679.pdf; ComponentLink2Description: LM2679 Web Page; ComponentLink2URL: http://www.national.com/pf/LM/LM2679.html; ComponentLink3Description: SRC14A Package Page; ComponentLink3URL: http://www.national.com/packaging/folders/src14a.html
footprint SRC14A (SON, 14-Leads, Body 6x5 mm, Pitch 0.8mm, NSC Recommended)
pins: 1 NC, 2 VIN (power), 3 VIN (power), 4 CB, 5 NC, 6 CURRENT ADJ (in), 7 FB (in), 8 SS (in), 9 GND (power), 10 NC, 11 NC, 12 VSW (power), 13 VSW (power), 14 VSW (power), 15 DAP

## LM2679SDX-ADJ
designator U?
SIMPLE SWITCHER® 5A Step-Down Voltage Regulator with Adjustable Current Limit, 14-pin LLP; PartNumber: LM2679SDX-ADJ; Manufacturer: National Semiconductor; PackageTopMarking: NS*UZXYTT*S0003KB; PowerWise: N; Published: 1-Mar-2010; DatasheetVersion: Feb-2008; PackageVersion: revA, Jul-2003; PackageReference: SRC14A; Publisher: Altium Limited; PackageDescription: LLP, Plastic, Dual, 6 x 5 x 1mm Body, 14 Lead, 0.8mm Pitch, No Pullback; RoHS: N; PinCount: 14; CompType: Switcher; ComponentLink1Description: LM2679 Datasheet; ComponentLink1URL: http://www.national.com/ds/LM/LM2679.pdf; ComponentLink2Description: LM2679 Web Page; ComponentLink2URL: http://www.national.com/pf/LM/LM2679.html; ComponentLink3Description: SRC14A Package Page; ComponentLink3URL: http://www.national.com/packaging/folders/src14a.html
footprint SRC14A (SON, 14-Leads, Body 6x5 mm, Pitch 0.8mm, NSC Recommended)
pins: 1 NC, 2 VIN (power), 3 VIN (power), 4 CB, 5 NC, 6 CURRENT ADJ (in), 7 FB (in), 8 SS (in), 9 GND (power), 10 NC, 11 NC, 12 VSW (power), 13 VSW (power), 14 VSW (power), 15 DAP

## LM2679SX-3.3
designator U?
SIMPLE SWITCHER® 5A Step-Down Voltage Regulator with Adjustable Current Limit, 7-pin TO-263; PartNumber: LM2679SX-3.3; Manufacturer: National Semiconductor; PackageTopMarking: NSUZXYTTE#*LM2679*S-3.3; PowerWise: N; Published: 1-Mar-2010; DatasheetVersion: Feb-2008; PackageVersion: revE, Jul-2003; PackageReference: TS7B; Publisher: Altium Limited; PackageDescription: TO-263, Molded, .400 x .390 x .180in Body, 7 Lead, .050in Pitch, Surface Mount; RoHS: N; PinCount: 7; CompType: Switcher; Code_JEDEC: MO-169-AC; ComponentLink1Description: LM2679 Datasheet; ComponentLink1URL: http://www.national.com/ds/LM/LM2679.pdf; ComponentLink2Description: LM2679 Web Page; ComponentLink2URL: http://www.national.com/pf/LM/LM2679.html; ComponentLink3Description: TS7B Package Page; ComponentLink3URL: http://www.national.com/packaging/folders/ts7b.html
footprint TS7B_N (D2-PAK, 8-Leads, Body 8.6x10.2mm, Pitch 1.27mm, Lead Span 14.1mm, IPC Medium Density)
footprint TS7B_L (D2-PAK, 8-Leads, Body 8.6x10.2mm, Pitch 1.27mm, Lead Span 14.1mm, IPC High Density)
footprint TS7B_M (D2-PAK, 8-Leads, Body 8.6x10.2mm, Pitch 1.27mm, Lead Span 14.1mm, IPC Low Density)
pins: 1 SW (power), 2 IN (power), 3 CB, 4 GND (power), 5 CURRENT ADJ (in), 6 FB (in), 7 SS (in), 8 TAB (power)

## LM2679SX-5.0
designator U?
SIMPLE SWITCHER® 5A Step-Down Voltage Regulator with Adjustable Current Limit, 7-pin TO-263; PartNumber: LM2679SX-5.0; Manufacturer: National Semiconductor; PackageTopMarking: NSUZXYTTE#*LM2679*S-5.0; PowerWise: N; Published: 1-Mar-2010; DatasheetVersion: Feb-2008; PackageVersion: revE, Jul-2003; PackageReference: TS7B; Publisher: Altium Limited; PackageDescription: TO-263, Molded, .400 x .390 x .180in Body, 7 Lead, .050in Pitch, Surface Mount; RoHS: N; PinCount: 7; CompType: Switcher; Code_JEDEC: MO-169-AC; ComponentLink1Description: LM2679 Datasheet; ComponentLink1URL: http://www.national.com/ds/LM/LM2679.pdf; ComponentLink2Description: LM2679 Web Page; ComponentLink2URL: http://www.national.com/pf/LM/LM2679.html; ComponentLink3Description: TS7B Package Page; ComponentLink3URL: http://www.national.com/packaging/folders/ts7b.html
footprint TS7B_N (D2-PAK, 8-Leads, Body 8.6x10.2mm, Pitch 1.27mm, Lead Span 14.1mm, IPC Medium Density)
footprint TS7B_L (D2-PAK, 8-Leads, Body 8.6x10.2mm, Pitch 1.27mm, Lead Span 14.1mm, IPC High Density)
footprint TS7B_M (D2-PAK, 8-Leads, Body 8.6x10.2mm, Pitch 1.27mm, Lead Span 14.1mm, IPC Low Density)
pins: 1 SW (power), 2 IN (power), 3 CB, 4 GND (power), 5 CURRENT ADJ (in), 6 FB (in), 7 SS (in), 8 TAB (power)

## LM2679SX-12
designator U?
SIMPLE SWITCHER® 5A Step-Down Voltage Regulator with Adjustable Current Limit, 7-pin TO-263; PartNumber: LM2679SX-12; Manufacturer: National Semiconductor; PackageTopMarking: NSUZXYTTE#*LM2679*S-12; PowerWise: N; Published: 1-Mar-2010; DatasheetVersion: Feb-2008; PackageVersion: revE, Jul-2003; PackageReference: TS7B; Publisher: Altium Limited; PackageDescription: TO-263, Molded, .400 x .390 x .180in Body, 7 Lead, .050in Pitch, Surface Mount; RoHS: N; PinCount: 7; CompType: Switcher; Code_JEDEC: MO-169-AC; ComponentLink1Description: LM2679 Datasheet; ComponentLink1URL: http://www.national.com/ds/LM/LM2679.pdf; ComponentLink2Description: LM2679 Web Page; ComponentLink2URL: http://www.national.com/pf/LM/LM2679.html; ComponentLink3Description: TS7B Package Page; ComponentLink3URL: http://www.national.com/packaging/folders/ts7b.html
footprint TS7B_N (D2-PAK, 8-Leads, Body 8.6x10.2mm, Pitch 1.27mm, Lead Span 14.1mm, IPC Medium Density)
footprint TS7B_L (D2-PAK, 8-Leads, Body 8.6x10.2mm, Pitch 1.27mm, Lead Span 14.1mm, IPC High Density)
footprint TS7B_M (D2-PAK, 8-Leads, Body 8.6x10.2mm, Pitch 1.27mm, Lead Span 14.1mm, IPC Low Density)
pins: 1 SW (power), 2 IN (power), 3 CB, 4 GND (power), 5 CURRENT ADJ (in), 6 FB (in), 7 SS (in), 8 TAB (power)

## LM2679SX-ADJ
designator U?
SIMPLE SWITCHER® 5A Step-Down Voltage Regulator with Adjustable Current Limit, 7-pin TO-263; PartNumber: LM2679SX-ADJ; Manufacturer: National Semiconductor; PackageTopMarking: NSUZXYTTE#*LM2679*S-ADJ; PowerWise: N; Published: 1-Mar-2010; DatasheetVersion: Feb-2008; PackageVersion: revE, Jul-2003; PackageReference: TS7B; Publisher: Altium Limited; PackageDescription: TO-263, Molded, .400 x .390 x .180in Body, 7 Lead, .050in Pitch, Surface Mount; RoHS: N; PinCount: 7; CompType: Switcher; Code_JEDEC: MO-169-AC; ComponentLink1Description: LM2679 Datasheet; ComponentLink1URL: http://www.national.com/ds/LM/LM2679.pdf; ComponentLink2Description: LM2679 Web Page; ComponentLink2URL: http://www.national.com/pf/LM/LM2679.html; ComponentLink3Description: TS7B Package Page; ComponentLink3URL: http://www.national.com/packaging/folders/ts7b.html
footprint TS7B_N (D2-PAK, 8-Leads, Body 8.6x10.2mm, Pitch 1.27mm, Lead Span 14.1mm, IPC Medium Density)
footprint TS7B_L (D2-PAK, 8-Leads, Body 8.6x10.2mm, Pitch 1.27mm, Lead Span 14.1mm, IPC High Density)
footprint TS7B_M (D2-PAK, 8-Leads, Body 8.6x10.2mm, Pitch 1.27mm, Lead Span 14.1mm, IPC Low Density)
pins: 1 SW (power), 2 IN (power), 3 CB, 4 GND (power), 5 CURRENT ADJ (in), 6 FB (in), 7 SS (in), 8 TAB (power)

## LM2679T-3.3
designator U?
SIMPLE SWITCHER® 5A Step-Down Voltage Regulator with Adjustable Current Limit, 7-pin TO-220; PartNumber: LM2679T-3.3; Manufacturer: National Semiconductor; PackageTopMarking: NSUZXYTTE#*LM2679*T-3.3; PowerWise: N; Published: 4-Dec-2008; DatasheetVersion: Feb-2008; PackageVersion: revC, Apr-1999; PackageReference: TA07B; Publisher: Altium Limited; PackageDescription: TO-220, Molded, .400 x .590 x .180in Body, 7 Lead, .050in Pitch, Staggered; RoHS: N; PinCount: 7; CompType: Switcher; Code_JEDEC: TO-220-AB; ComponentLink1Description: LM2679 Datasheet; ComponentLink1URL: http://www.national.com/ds/LM/LM2679.pdf; ComponentLink2Description: LM2679 Web Page; ComponentLink2URL: http://www.national.com/pf/LM/LM2679.html; ComponentLink3Description: TA07B Package Page; ComponentLink3URL: http://www.national.com/packaging/folders/ta07b.html
footprint TA07B (TO, Thru-Hole, Vertical, Heatsink Mounted; 7 Bent Staggered Leads; Body 10.2x8.7x4.6mm, Pitch 1.27 mm)
pins: 1 SW (power), 2 IN (power), 3 CB, 4 GND (power), 5 CURRENT ADJ (in), 6 FB (in), 7 SS (in)

## LM2679T-3.3/NOPB
designator U?
SIMPLE SWITCHER® 5A Step-Down Voltage Regulator with Adjustable Current Limit, 7-pin TO-220, Pb-Free; PartNumber: LM2679T-3.3/NOPB; Manufacturer: National Semiconductor; PackageTopMarking: NSUZXYTTE#*LM2679*T-3.3; PowerWise: N; Published: 1-Mar-2010; DatasheetVersion: Feb-2008; PackageVersion: revC, Apr-1999; PackageReference: TA07B; Publisher: Altium Limited; PackageDescription: TO-220, Molded, .400 x .590 x .180in Body, 7 Lead, .050in Pitch, Staggered; Supplier 1: Digi-Key; Supplier Part Number 1: LM2679T-3.3-ND; RoHS: Y; PinCount: 7; CompType: Switcher; Code_JEDEC: TO-220-AB; ComponentLink1Description: LM2679 Datasheet; ComponentLink1URL: http://www.national.com/ds/LM/LM2679.pdf; ComponentLink2Description: LM2679 Web Page; ComponentLink2URL: http://www.national.com/pf/LM/LM2679.html; ComponentLink3Description: TA07B Package Page; ComponentLink3URL: http://www.national.com/packaging/folders/ta07b.html
footprint TA07B (TO, Thru-Hole, Vertical, Heatsink Mounted; 7 Bent Staggered Leads; Body 10.2x8.7x4.6mm, Pitch 1.27 mm)
pins: 1 SW (power), 2 IN (power), 3 CB, 4 GND (power), 5 CURRENT ADJ (in), 6 FB (in), 7 SS (in)

## LM2679T-5.0
designator U?
SIMPLE SWITCHER® 5A Step-Down Voltage Regulator with Adjustable Current Limit, 7-pin TO-220; PartNumber: LM2679T-5.0; Manufacturer: National Semiconductor; PackageTopMarking: NSUZXYTTE#*LM2679*T-5.0; PowerWise: N; Published: 4-Dec-2008; DatasheetVersion: Feb-2008; PackageVersion: revC, Apr-1999; PackageReference: TA07B; Publisher: Altium Limited; PackageDescription: TO-220, Molded, .400 x .590 x .180in Body, 7 Lead, .050in Pitch, Staggered; RoHS: N; PinCount: 7; CompType: Switcher; Code_JEDEC: TO-220-AB; ComponentLink1Description: LM2679 Datasheet; ComponentLink1URL: http://www.national.com/ds/LM/LM2679.pdf; ComponentLink2Description: LM2679 Web Page; ComponentLink2URL: http://www.national.com/pf/LM/LM2679.html; ComponentLink3Description: TA07B Package Page; ComponentLink3URL: http://www.national.com/packaging/folders/ta07b.html
footprint TA07B (TO, Thru-Hole, Vertical, Heatsink Mounted; 7 Bent Staggered Leads; Body 10.2x8.7x4.6mm, Pitch 1.27 mm)
pins: 1 SW (power), 2 IN (power), 3 CB, 4 GND (power), 5 CURRENT ADJ (in), 6 FB (in), 7 SS (in)

## LM2679T-5.0/NOPB
designator U?
SIMPLE SWITCHER® 5A Step-Down Voltage Regulator with Adjustable Current Limit, 7-pin TO-220, Pb-Free; PartNumber: LM2679T-5.0/NOPB; Manufacturer: National Semiconductor; PackageTopMarking: NSUZXYTTE#*LM2679*T-5.0; PowerWise: N; Published: 1-Mar-2010; DatasheetVersion: Feb-2008; PackageVersion: revC, Apr-1999; PackageReference: TA07B; Publisher: Altium Limited; PackageDescription: TO-220, Molded, .400 x .590 x .180in Body, 7 Lead, .050in Pitch, Staggered; Supplier 1: Digi-Key; Supplier Part Number 1: LM2679T-5.0-ND; RoHS: Y; PinCount: 7; CompType: Switcher; Code_JEDEC: TO-220-AB; ComponentLink1Description: LM2679 Datasheet; ComponentLink1URL: http://www.national.com/ds/LM/LM2679.pdf; ComponentLink2Description: LM2679 Web Page; ComponentLink2URL: http://www.national.com/pf/LM/LM2679.html; ComponentLink3Description: TA07B Package Page; ComponentLink3URL: http://www.national.com/packaging/folders/ta07b.html
footprint TA07B (TO, Thru-Hole, Vertical, Heatsink Mounted; 7 Bent Staggered Leads; Body 10.2x8.7x4.6mm, Pitch 1.27 mm)
pins: 1 SW (power), 2 IN (power), 3 CB, 4 GND (power), 5 CURRENT ADJ (in), 6 FB (in), 7 SS (in)

## LM2679T-12
designator U?
SIMPLE SWITCHER® 5A Step-Down Voltage Regulator with Adjustable Current Limit, 7-pin TO-220; PartNumber: LM2679T-12; Manufacturer: National Semiconductor; PackageTopMarking: NSUZXYTTE#*LM2679*T-12; PowerWise: N; Published: 4-Dec-2008; DatasheetVersion: Feb-2008; PackageVersion: revC, Apr-1999; PackageReference: TA07B; Publisher: Altium Limited; PackageDescription: TO-220, Molded, .400 x .590 x .180in Body, 7 Lead, .050in Pitch, Staggered; RoHS: N; PinCount: 7; CompType: Switcher; Code_JEDEC: TO-220-AB; ComponentLink1Description: LM2679 Datasheet; ComponentLink1URL: http://www.national.com/ds/LM/LM2679.pdf; ComponentLink2Description: LM2679 Web Page; ComponentLink2URL: http://www.national.com/pf/LM/LM2679.html; ComponentLink3Description: TA07B Package Page; ComponentLink3URL: http://www.national.com/packaging/folders/ta07b.html
footprint TA07B (TO, Thru-Hole, Vertical, Heatsink Mounted; 7 Bent Staggered Leads; Body 10.2x8.7x4.6mm, Pitch 1.27 mm)
pins: 1 SW (power), 2 IN (power), 3 CB, 4 GND (power), 5 CURRENT ADJ (in), 6 FB (in), 7 SS (in)

## LM2679T-12/NOPB
designator U?
SIMPLE SWITCHER® 5A Step-Down Voltage Regulator with Adjustable Current Limit, 7-pin TO-220, Pb-Free; PartNumber: LM2679T-12/NOPB; Manufacturer: National Semiconductor; PackageTopMarking: NSUZXYTTE#*LM2679*T-12; PowerWise: N; Published: 1-Mar-2010; DatasheetVersion: Feb-2008; PackageVersion: revC, Apr-1999; PackageReference: TA07B; Publisher: Altium Limited; PackageDescription: TO-220, Molded, .400 x .590 x .180in Body, 7 Lead, .050in Pitch, Staggered; Supplier 1: Digi-Key; Supplier Part Number 1: LM2679T-12-ND; RoHS: Y; PinCount: 7; CompType: Switcher; Code_JEDEC: TO-220-AB; ComponentLink1Description: LM2679 Datasheet; ComponentLink1URL: http://www.national.com/ds/LM/LM2679.pdf; ComponentLink2Description: LM2679 Web Page; ComponentLink2URL: http://www.national.com/pf/LM/LM2679.html; ComponentLink3Description: TA07B Package Page; ComponentLink3URL: http://www.national.com/packaging/folders/ta07b.html
footprint TA07B (TO, Thru-Hole, Vertical, Heatsink Mounted; 7 Bent Staggered Leads; Body 10.2x8.7x4.6mm, Pitch 1.27 mm)
pins: 1 SW (power), 2 IN (power), 3 CB, 4 GND (power), 5 CURRENT ADJ (in), 6 FB (in), 7 SS (in)

## LM2679T-ADJ
designator U?
SIMPLE SWITCHER® 5A Step-Down Voltage Regulator with Adjustable Current Limit, 7-pin TO-220; PartNumber: LM2679T-ADJ; Manufacturer: National Semiconductor; PackageTopMarking: NSUZXYTTE#*LM2679*T-ADJ; PowerWise: N; Published: 4-Dec-2008; DatasheetVersion: Feb-2008; PackageVersion: revC, Apr-1999; PackageReference: TA07B; Publisher: Altium Limited; PackageDescription: TO-220, Molded, .400 x .590 x .180in Body, 7 Lead, .050in Pitch, Staggered; Supplier 1: Farnell; Supplier Part Number 1: 9489762; RoHS: N; PinCount: 7; CompType: Switcher; Code_JEDEC: TO-220-AB; ComponentLink1Description: LM2679 Datasheet; ComponentLink1URL: http://www.national.com/ds/LM/LM2679.pdf; ComponentLink2Description: LM2679 Web Page; ComponentLink2URL: http://www.national.com/pf/LM/LM2679.html; ComponentLink3Description: TA07B Package Page; ComponentLink3URL: http://www.national.com/packaging/folders/ta07b.html
footprint TA07B (TO, Thru-Hole, Vertical, Heatsink Mounted; 7 Bent Staggered Leads; Body 10.2x8.7x4.6mm, Pitch 1.27 mm)
pins: 1 SW (power), 2 IN (power), 3 CB, 4 GND (power), 5 CURRENT ADJ (in), 6 FB (in), 7 SS (in)

## LM2679T-ADJ/NOPB
designator U?
SIMPLE SWITCHER® 5A Step-Down Voltage Regulator with Adjustable Current Limit, 7-pin TO-220, Pb-Free; PartNumber: LM2679T-ADJ/NOPB; Manufacturer: National Semiconductor; PackageTopMarking: NSUZXYTTE#*LM2679*T-ADJ; PowerWise: N; Published: 1-Mar-2010; DatasheetVersion: Feb-2008; PackageVersion: revC, Apr-1999; PackageReference: TA07B; Publisher: Altium Limited; PackageDescription: TO-220, Molded, .400 x .590 x .180in Body, 7 Lead, .050in Pitch, Staggered; Supplier 1: Digi-Key; Supplier Part Number 1: LM2679T-ADJ-ND; Supplier 2: Farnell; Supplier Part Number 2: 1258327; RoHS: Y; PinCount: 7; CompType: Switcher; Code_JEDEC: TO-220-AB; ComponentLink1Description: LM2679 Datasheet; ComponentLink1URL: http://www.national.com/ds/LM/LM2679.pdf; ComponentLink2Description: LM2679 Web Page; ComponentLink2URL: http://www.national.com/pf/LM/LM2679.html; ComponentLink3Description: TA07B Package Page; ComponentLink3URL: http://www.national.com/packaging/folders/ta07b.html
footprint TA07B (TO, Thru-Hole, Vertical, Heatsink Mounted; 7 Bent Staggered Leads; Body 10.2x8.7x4.6mm, Pitch 1.27 mm)
pins: 1 SW (power), 2 IN (power), 3 CB, 4 GND (power), 5 CURRENT ADJ (in), 6 FB (in), 7 SS (in)

## LM2694MT
designator U?
30V, 600 mA Step Down Switching Regulator, 14-pin TSSOP; PartNumber: LM2694MT; Manufacturer: National Semiconductor; PackageTopMarking: NSUZXYTT*L2694*MT; PowerWise: N; CompType: Switcher; Published: 4-Dec-2008; DatasheetVersion: May-2006; PackageVersion: revD, Jun-2003; PackageReference: MTC14; Publisher: Altium Limited; PackageDescription: Molded TSSOP, JEDEC, 5 x 4.4 x 0.9mm Body, 14 Lead, 0.65mm Pitch; Supplier 1: Farnell; Supplier Part Number 1: 1286850; RoHS: N; PinCount: 14; Code_JEDEC: MO-153-AB-1; ComponentLink1Description: LM2694 Datasheet; ComponentLink1URL: http://www.national.com/ds/LM/LM2694.pdf; ComponentLink2Description: LM2694 Web Page; ComponentLink2URL: http://www.national.com/pf/LM/LM2694.html; ComponentLink3Description: MTC14 Package Page; ComponentLink3URL: http://www.national.com/packaging/folders/mtc14.html
footprint MTC14_N (TSOP, 14-Leads, Body 5x4.4mm, Pitch 0.65mm, IPC Medium Density)
footprint MTC14_L (TSOP, 14-Leads, Body 5x4.4mm, Pitch 0.65mm, IPC High Density)
footprint MTC14_M (TSOP, 14-Leads, Body 5x4.4mm, Pitch 0.65mm, IPC Low Density)
pins: 1 NC, 2 SW (power), 3 BST, 4 ISEN, 5 SGND (power), 6 RTN (power), 7 NC, 8 NC, 9 FB (in), 10 SS (in), 11 RON/SD (in), 12 VCC (power), 13 VIN (power), 14 NC

## LM2694MT/NOPB
designator U?
30V, 600 mA Step Down Switching Regulator, 14-pin TSSOP, Pb-Free; PartNumber: LM2694MT/NOPB; Manufacturer: National Semiconductor; PackageTopMarking: NSUZXYTT*L2694*MT; PowerWise: N; CompType: Switcher; Published: 1-Mar-2010; DatasheetVersion: May-2006; PackageVersion: revD, Jun-2003; PackageReference: MTC14; Publisher: Altium Limited; PackageDescription: Molded TSSOP, JEDEC, 5 x 4.4 x 0.9mm Body, 14 Lead, 0.65mm Pitch; Supplier 1: Digi-Key; Supplier Part Number 1: LM2694MT-ND; Supplier 2: Farnell; Supplier Part Number 2: 1654258; RoHS: Y; PinCount: 14; Code_JEDEC: MO-153-AB-1; ComponentLink1Description: LM2694 Datasheet; ComponentLink1URL: http://www.national.com/ds/LM/LM2694.pdf; ComponentLink2Description: LM2694 Web Page; ComponentLink2URL: http://www.national.com/pf/LM/LM2694.html; ComponentLink3Description: MTC14 Package Page; ComponentLink3URL: http://www.national.com/packaging/folders/mtc14.html
footprint MTC14_N (TSOP, 14-Leads, Body 5x4.4mm, Pitch 0.65mm, IPC Medium Density)
footprint MTC14_L (TSOP, 14-Leads, Body 5x4.4mm, Pitch 0.65mm, IPC High Density)
footprint MTC14_M (TSOP, 14-Leads, Body 5x4.4mm, Pitch 0.65mm, IPC Low Density)
pins: 1 NC, 2 SW (power), 3 BST, 4 ISEN, 5 SGND (power), 6 RTN (power), 7 NC, 8 NC, 9 FB (in), 10 SS (in), 11 RON/SD (in), 12 VCC (power), 13 VIN (power), 14 NC

## LM2694MTX
designator U?
30V, 600 mA Step Down Switching Regulator, 14-pin TSSOP; PartNumber: LM2694MTX; Manufacturer: National Semiconductor; PackageTopMarking: NSUZXYTT*L2694*MT; PowerWise: N; CompType: Switcher; Published: 1-Mar-2010; DatasheetVersion: May-2006; PackageVersion: revD, Jun-2003; PackageReference: MTC14; Publisher: Altium Limited; PackageDescription: Molded TSSOP, JEDEC, 5 x 4.4 x 0.9mm Body, 14 Lead, 0.65mm Pitch; RoHS: N; PinCount: 14; Code_JEDEC: MO-153-AB-1; ComponentLink1Description: LM2694 Datasheet; ComponentLink1URL: http://www.national.com/ds/LM/LM2694.pdf; ComponentLink2Description: LM2694 Web Page; ComponentLink2URL: http://www.national.com/pf/LM/LM2694.html; ComponentLink3Description: MTC14 Package Page; ComponentLink3URL: http://www.national.com/packaging/folders/mtc14.html
footprint MTC14_N (TSOP, 14-Leads, Body 5x4.4mm, Pitch 0.65mm, IPC Medium Density)
footprint MTC14_L (TSOP, 14-Leads, Body 5x4.4mm, Pitch 0.65mm, IPC High Density)
footprint MTC14_M (TSOP, 14-Leads, Body 5x4.4mm, Pitch 0.65mm, IPC Low Density)
pins: 1 NC, 2 SW (power), 3 BST, 4 ISEN, 5 SGND (power), 6 RTN (power), 7 NC, 8 NC, 9 FB (in), 10 SS (in), 11 RON/SD (in), 12 VCC (power), 13 VIN (power), 14 NC

## LM2694MTX/NOPB
designator U?
30V, 600 mA Step Down Switching Regulator, 14-pin TSSOP, Pb-Free; PartNumber: LM2694MTX/NOPB; Manufacturer: National Semiconductor; PackageTopMarking: NSUZXYTT*L2694*MT; PowerWise: N; CompType: Switcher; Published: 1-Mar-2010; DatasheetVersion: May-2006; PackageVersion: revD, Jun-2003; PackageReference: MTC14; Publisher: Altium Limited; PackageDescription: Molded TSSOP, JEDEC, 5 x 4.4 x 0.9mm Body, 14 Lead, 0.65mm Pitch; Supplier 1: Digi-Key; Supplier Part Number 1: LM2694MTX-ND; RoHS: Y; PinCount: 14; Code_JEDEC: MO-153-AB-1; ComponentLink1Description: LM2694 Datasheet; ComponentLink1URL: http://www.national.com/ds/LM/LM2694.pdf; ComponentLink2Description: LM2694 Web Page; ComponentLink2URL: http://www.national.com/pf/LM/LM2694.html; ComponentLink3Description: MTC14 Package Page; ComponentLink3URL: http://www.national.com/packaging/folders/mtc14.html
footprint MTC14_N (TSOP, 14-Leads, Body 5x4.4mm, Pitch 0.65mm, IPC Medium Density)
footprint MTC14_L (TSOP, 14-Leads, Body 5x4.4mm, Pitch 0.65mm, IPC High Density)
footprint MTC14_M (TSOP, 14-Leads, Body 5x4.4mm, Pitch 0.65mm, IPC Low Density)
pins: 1 NC, 2 SW (power), 3 BST, 4 ISEN, 5 SGND (power), 6 RTN (power), 7 NC, 8 NC, 9 FB (in), 10 SS (in), 11 RON/SD (in), 12 VCC (power), 13 VIN (power), 14 NC

## LM2694SD
designator U?
30V, 600 mA Step Down Switching Regulator, 10-pin LLP; PartNumber: LM2694SD; Manufacturer: National Semiconductor; PackageTopMarking: ZXYTT*L2694; PowerWise: N; CompType: Switcher; Published: 4-Dec-2008; DatasheetVersion: May-2006; PackageVersion: revA, Oct-2003; PackageReference: SDA10A; Publisher: Altium Limited; PackageDescription: LLP, Plastic, Dual, 3 x 3 x 0.8mm Body, 10 Lead, 0.5mm Pitch, No Pullback; Supplier 1: Farnell; Supplier Part Number 1: 1312684; RoHS: N; PinCount: 10; ComponentLink1Description: LM2694 Datasheet; ComponentLink1URL: http://www.national.com/ds/LM/LM2694.pdf; ComponentLink2Description: LM2694 Web Page; ComponentLink2URL: http://www.national.com/pf/LM/LM2694.html; ComponentLink3Description: SDA10A Package Page; ComponentLink3URL: http://www.national.com/packaging/folders/sda10a.html
footprint SDA10A (SON, 10-Leads, Body 3x3 mm, Pitch 0.5mm, NSC Recommended)
pins: 1 SW (power), 2 BST, 3 ISEN, 4 SGND (power), 5 RTN (power), 6 FB (in), 7 SS (in), 8 RON/SD (in), 9 VCC (power), 10 VIN (power), 11 DAP (power)

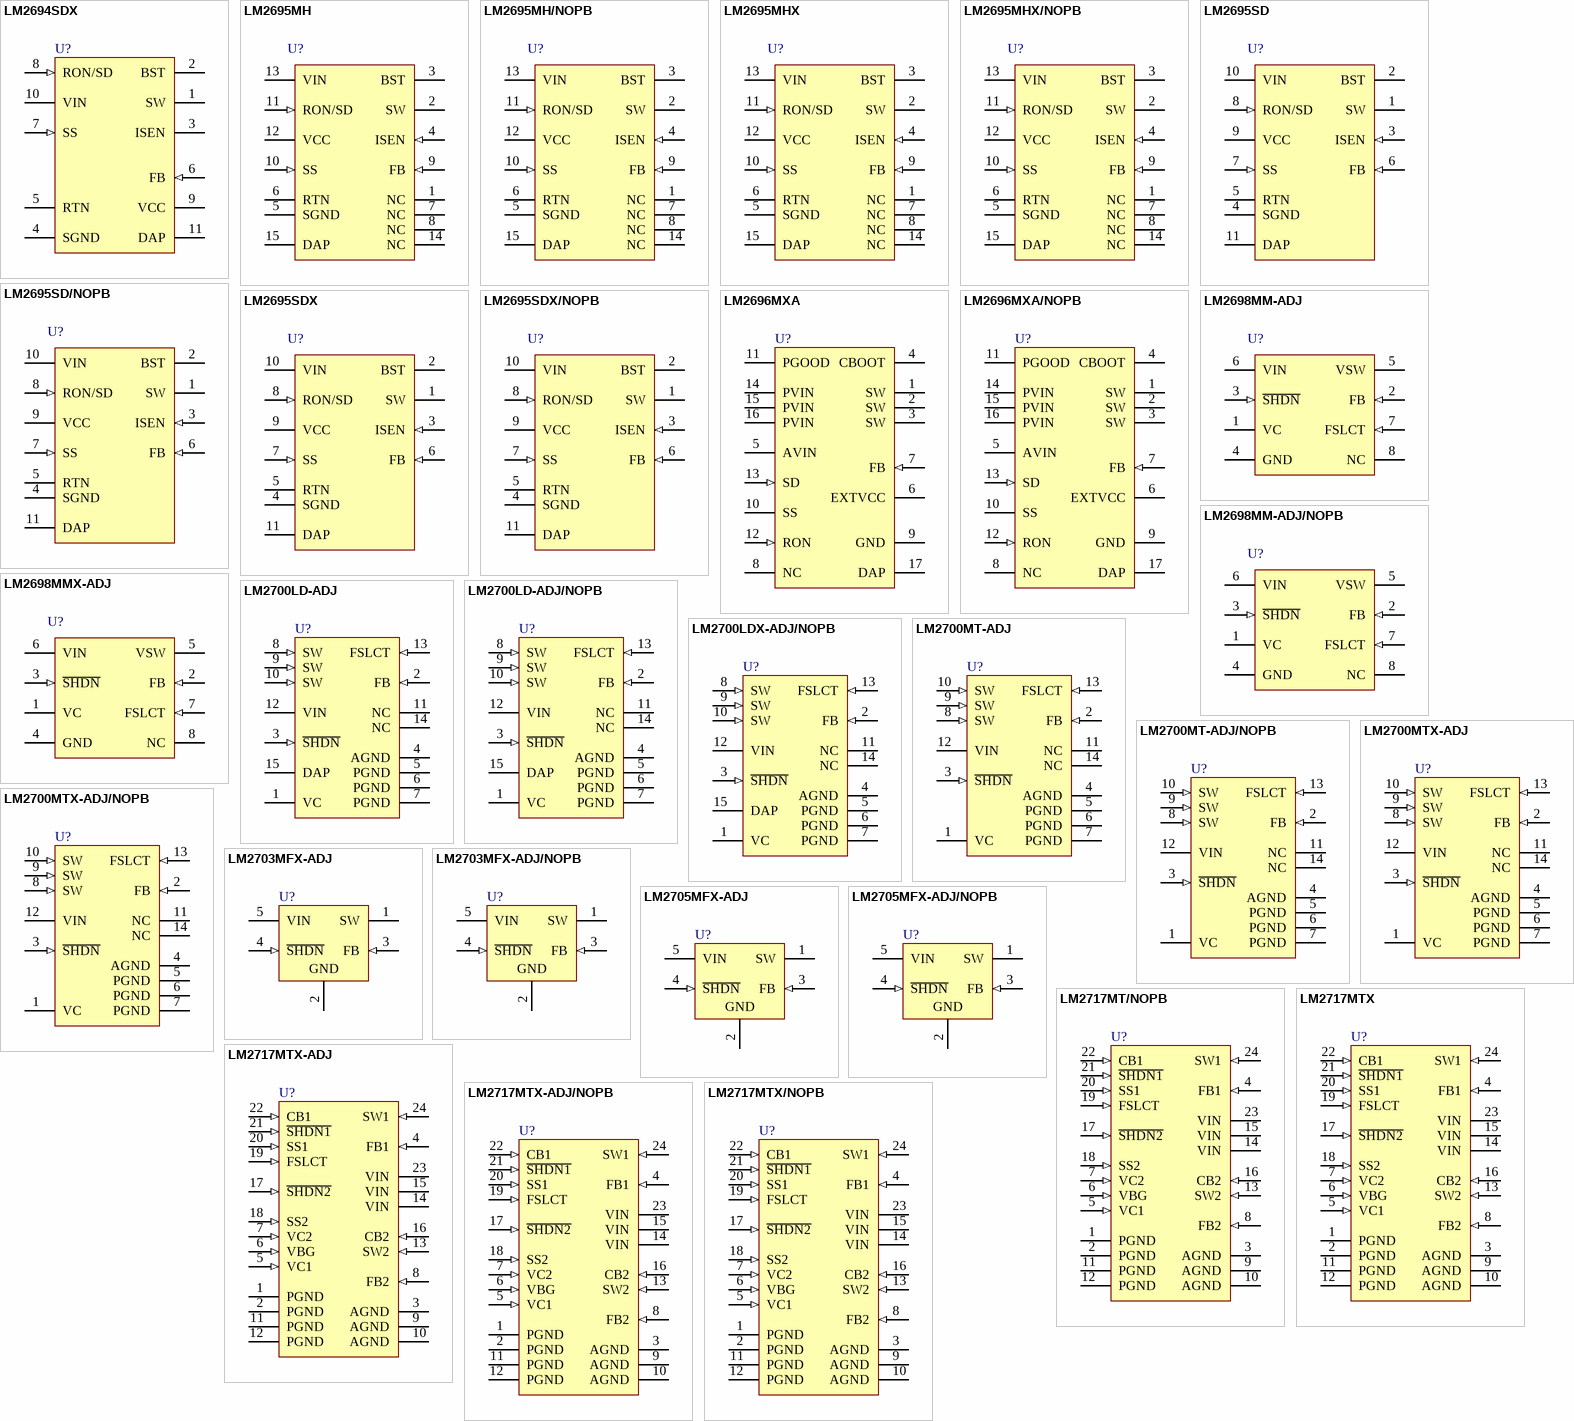
[diagram p23: symbols LM2694SDX to LM2717MTX/NOPB]